# Altium footprint library Common.PcbLib: 3 footprints
Each footprint in its own frame and in the unit in brackets; x right, y up, seen from the top. Pads: shape width x height; smd on the part's side, far side on the other; paste and mask are expansions set on the pad; w line width, h text height; cw(c..) or ccw(c..) is an arc to the next point about the centre after c.
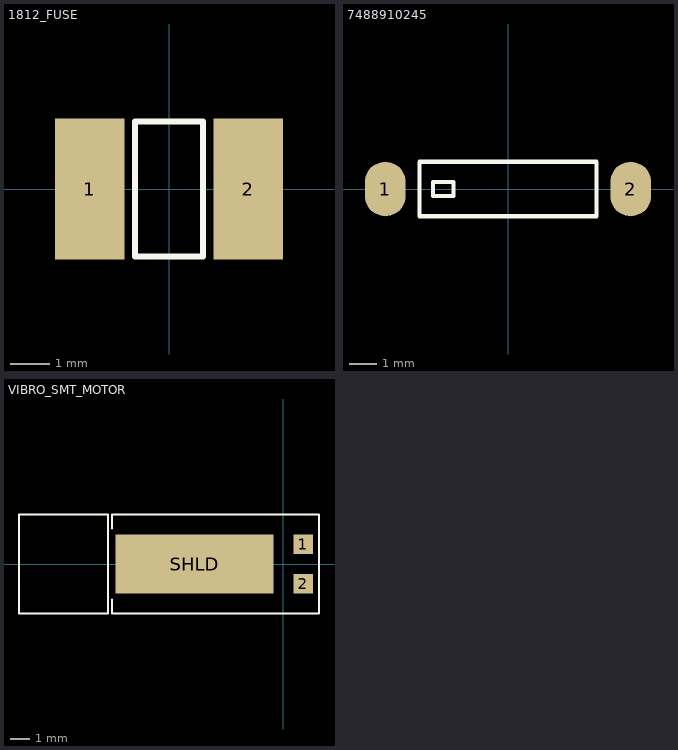
[diagram p0: the footprints below, top view; thin cyan lines are the x and y axes]

## 1812_FUSE [mm]
pads (2):
  rect 1.75x3.55 smd: 1(-2,0) 2(2,0)
Top Overlay:
  lines w0.15: -0.85,-1.7 -0.85,1.7 0.85,1.7 0.85,-1.7 -0.85,-1.7
3D body "User Library-Fuse 1812.step": height 1.01, standoff -0.02, extent -2.37,-1.74 2.365,1.74

## 7488910245 [mm]
pads (2):
  oval 1.5x2 smd: 1(-4.5,0) 2(4.5,0)
Top Overlay:
  lines w0.15: -3.25,-1 -3.25,1 3.25,1 3.25,-1 -3.25,-1 ; -2.75,-0.25 -2.75,0.25 -2,0.25 -2,-0.25 -2.75,-0.25
3D body: height 1, standoff 0, extent -4.75,-0.875 4.75,0.875

## VIBRO_SMT_MOTOR [mm]
pads (3):
  rect 1x1 smd: 1(1,1) 2(1,-1)
  rect 8x3 smd: SHLD(-4.5,0)
Top Overlay:
  lines w0.1: -8.7,-1.8 -8.7,-2.5 1.8,-2.5 1.8,2.5 -8.7,2.5 -8.7,1.8 ; -13.4,-2.5 -8.9,-2.5 -8.9,2.5 -13.4,2.5 -13.4,-2.5
3D body: height 5, standoff 0, extent -13.4,-2.5 -8.9,2.5
3D body: height 5, standoff 0, extent -8.7,-2.5 1.8,2.5